# Altium footprint library pedals-capacitors-film.PCBLIB: 10 footprints
Each footprint in its own frame and in the unit in brackets; x right, y up, seen from the top. Pads: shape width x height; smd on the part's side, far side on the other; paste and mask are expansions set on the pad; w line width, h text height; cw(c..) or ccw(c..) is an arc to the next point about the centre after c.
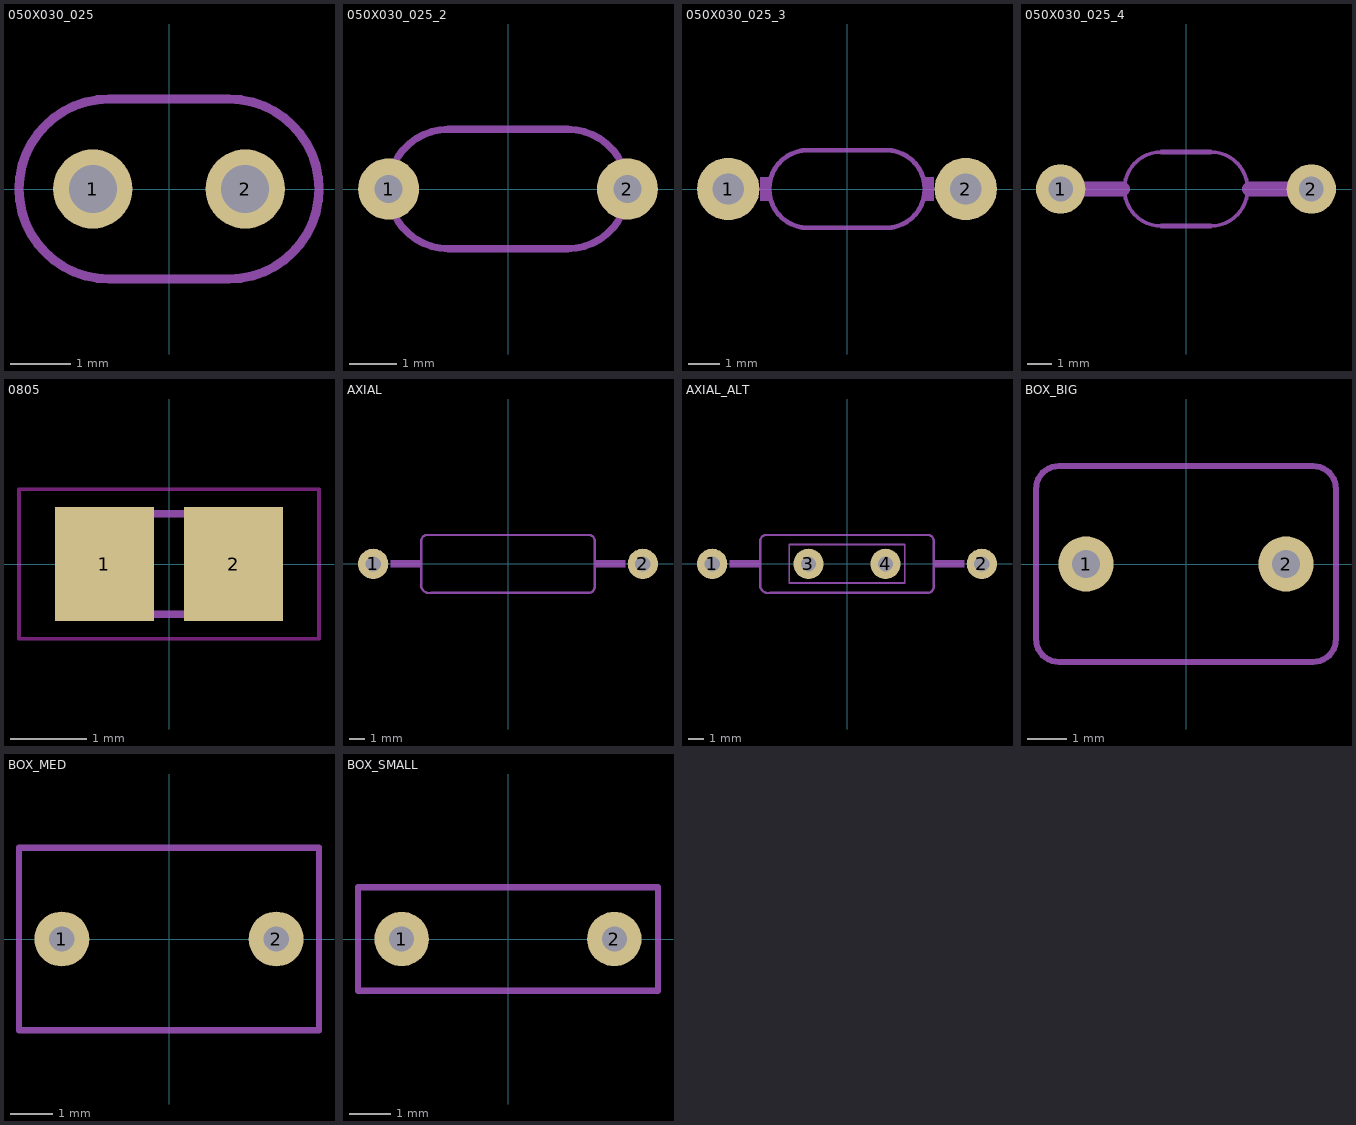
[diagram p0: the footprints below, top view; thin cyan lines are the x and y axes]

## 050X030_025 [mil]
pads (2):
  round 52 hole 31.5: 1(-50,0) 2(50,0)
Mechanical 2:
  lines w6: -98.43,0 cw(c-39.37,0) -39.37,59.06 39.37,59.06 cw(c39.37,0) 98.43,0 cw(c39.37,0) 39.37,-59.06 -39.37,-59.06 cw(c-39.37,0) -98.43,0

## 050X030_025_2 [mm]
pads (2):
  round 1.3 hole 0.6: 1(-2.54,0) 2(2.54,0)
Mechanical 2:
  lines w0.152: -2.54,0 cw(c-1.27,0) -1.27,1.27 1.27,1.27 cw(c1.27,0) 2.54,0 cw(c1.27,0) 1.27,-1.27 0.635,-1.27 -1.27,-1.27 cw(c-1.27,0) -2.54,0

## 050X030_025_3 [mm]
pads (2):
  round 2 hole 1: 1(-3.81,0) 2(3.81,0)
Mechanical 2:
  rectangle: -2.794,-0.381 -2.54,0.381
  rectangle: 2.54,-0.381 2.794,0.381
  lines w0.152: -2.5,0 cw(c-1.254,0) -1.254,1.246 1.254,1.246 cw(c1.254,0) 2.5,0 cw(c1.254,0) 1.254,-1.246 -1.254,-1.246 cw(c-1.254,0) -2.5,0

## 050X030_025_4 [mm]
pads (2):
  round 2 hole 1: 1(-5.08,0) 2(5.08,0)
Mechanical 2:
  lines w0.152: -1,-1.5 cw(c-1,0) -2.5,0 cw(c-1,0) -1,1.5 ; 1,-1.5 ccw(c1,0) 2.5,0 ccw(c1,0) 1,1.5
  lines w0.203: -1,-1.5 1,-1.5 ; -1,1.5 1,1.5
Mechanical 18:
  lines w0.61: -5.08,0 -2.565,0 ; 2.565,0 5.08,0

## 0805 [mm]
pads (2):
  rect 1.3x1.5 smd: 1(-0.85,0) 2(0.85,0)
Keep-Out Layer:
  lines w0.051: -1.973,-0.983 1.973,-0.983 1.973,0.983 -1.973,0.983 -1.973,-0.983
Mechanical 18:
  rectangle: -1.092,-0.724 -0.342,0.726
  rectangle: 0.356,-0.724 1.106,0.726
  lines w0.102: -0.381,0.66 0.381,0.66 ; -0.356,-0.66 0.381,-0.66

## AXIAL [mm]
pads (2):
  round 2 hole 1: 1(-8.89,0) 2(8.89,0)
Mechanical 2:
  rectangle: -7.747,-0.254 -5.715,0.254
  rectangle: 5.715,-0.254 7.747,0.254
  lines w0.152: -5.715,-1.524 ccw(c-5.207,-1.397) -5.08,-1.905 5.334,-1.905 ccw(c5.334,-1.524) 5.715,-1.524 5.715,1.524 ccw(c5.334,1.524) 5.334,1.905 -5.334,1.905 ccw(c-5.334,1.524) -5.715,1.524 -5.715,-1.524

## AXIAL_ALT [mm]
pads (4):
  round 2 hole 1: 1(-8.89,0) 2(8.89,0) 3(-2.54,0) 4(2.54,0)
Mechanical 2:
  rectangle: -7.747,-0.254 -5.715,0.254
  rectangle: 5.715,-0.254 7.747,0.254
  lines w0.127: -3.81,-1.27 3.81,-1.27 3.81,1.27 -3.81,1.27 -3.81,-1.27
  lines w0.152: -5.715,-1.524 ccw(c-5.207,-1.397) -5.08,-1.905 5.334,-1.905 ccw(c5.334,-1.524) 5.715,-1.524 5.715,1.524 ccw(c5.334,1.524) 5.334,1.905 -5.334,1.905 ccw(c-5.334,1.524) -5.715,1.524 -5.715,-1.524

## BOX_BIG [mm]
pads (2):
  round 1.4 hole 0.7: 1(-2.54,0) 2(2.54,0)
Mechanical 2:
  lines w0.152: -3.81,-1.905 ccw(c-3.225,-1.905) -3.225,-2.49 -2.948,-2.49 2.313,-2.49 3.225,-2.49 ccw(c3.225,-1.905) 3.81,-1.905 3.81,1.905 ccw(c3.225,1.905) 3.225,2.49 2.948,2.49 -2.948,2.49 -3.225,2.49 ccw(c-3.225,1.905) -3.81,1.905 -3.81,-1.905

## BOX_MED [mm]
pads (2):
  round 1.3 hole 0.6: 1(-2.54,0) 2(2.54,0)
Mechanical 2:
  lines w0.152: -3.556,-2.159 -3.556,2.159 3.556,2.159 3.556,-2.159 -3.556,-2.159
3D body "BOX_MED.STEP": height 9.5, standoff -2.5, extent -3.599,-2.25 3.601,2.25

## BOX_SMALL [mm]
pads (2):
  round 1.3 hole 0.6: 1(-2.54,0) 2(2.54,0)
Mechanical 2:
  lines w0.152: -3.583,-1.24 3.583,-1.24 3.583,1.24 -3.583,1.24 -3.583,-1.24